# Altium footprint library TeensyFootprint.PcbLib: 1 footprints
Each footprint in its own frame and in the unit in brackets; x right, y up, seen from the top. Pads: shape width x height; smd on the part's side, far side on the other; paste and mask are expansions set on the pad; w line width, h text height; cw(c..) or ccw(c..) is an arc to the next point about the centre after c.
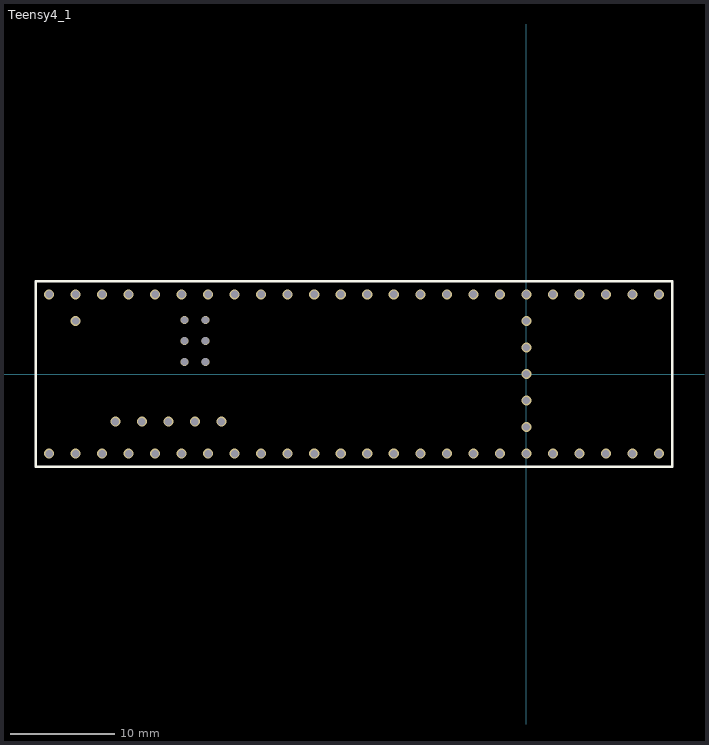
[diagram p0: the footprint, top view; thin cyan lines are the x and y axes]

## Teensy4_1 [mm] "Mircocontroller"
height 1.57
via 7.62,-7.62 diameter 0.965 hole 0.711
via 10.16,-7.62 diameter 0.965 hole 0.711
via 12.7,-7.62 diameter 0.965 hole 0.711
via 2.54,-7.62 diameter 0.965 hole 0.711
via 5.08,-7.62 diameter 0.965 hole 0.711
via 0,-7.62 diameter 0.965 hole 0.711
via -2.54,-7.62 diameter 0.965 hole 0.711
via -5.08,-7.62 diameter 0.965 hole 0.711
via -12.7,-7.62 diameter 0.965 hole 0.711
via -7.62,-7.62 diameter 0.965 hole 0.711
via -22.86,-7.62 diameter 0.965 hole 0.711
via -27.94,-7.62 diameter 0.965 hole 0.711
via -30.48,-7.62 diameter 0.965 hole 0.711
via -25.4,-7.62 diameter 0.965 hole 0.711
via -20.32,-7.62 diameter 0.965 hole 0.711
via -15.24,-7.62 diameter 0.965 hole 0.711
via -17.78,-7.62 diameter 0.965 hole 0.711
via -33.02,-7.62 diameter 0.965 hole 0.711
via -10.16,-7.62 diameter 0.965 hole 0.711
via -45.72,-7.62 diameter 0.965 hole 0.711
via -40.64,-7.62 diameter 0.965 hole 0.711
via -35.56,-7.62 diameter 0.965 hole 0.711
via -43.18,-7.62 diameter 0.965 hole 0.711
via -38.1,-7.62 diameter 0.965 hole 0.711
via 0,-5.08 diameter 0.965 hole 0.711
via 12.7,7.62 diameter 0.965 hole 0.711
via 0,-2.54 diameter 0.965 hole 0.711
via 0,0 diameter 0.965 hole 0.711
via 0,2.54 diameter 0.965 hole 0.711
via 0,5.08 diameter 0.965 hole 0.711
via 10.16,7.62 diameter 0.965 hole 0.711
via 7.62,7.62 diameter 0.965 hole 0.711
via 5.08,7.62 diameter 0.965 hole 0.711
via 2.54,7.62 diameter 0.965 hole 0.711
via 0,7.62 diameter 0.965 hole 0.711
via -2.54,7.62 diameter 0.965 hole 0.711
via -5.08,7.62 diameter 0.965 hole 0.711
via -7.62,7.62 diameter 0.965 hole 0.711
via -10.16,7.62 diameter 0.965 hole 0.711
via -12.7,7.62 diameter 0.965 hole 0.711
via -15.24,7.62 diameter 0.965 hole 0.711
via -17.78,7.62 diameter 0.965 hole 0.711
via -20.32,7.62 diameter 0.965 hole 0.711
via -22.86,7.62 diameter 0.965 hole 0.711
via -25.4,7.62 diameter 0.965 hole 0.711
via -27.94,7.62 diameter 0.965 hole 0.711
via -30.48,7.62 diameter 0.965 hole 0.711
via -33.02,7.62 diameter 0.965 hole 0.711
via -35.56,7.62 diameter 0.965 hole 0.711
via -38.1,7.62 diameter 0.965 hole 0.711
via -40.64,7.62 diameter 0.965 hole 0.711
via -43.18,7.62 diameter 0.965 hole 0.711
via -45.72,7.62 diameter 0.965 hole 0.711
via -43.18,5.08 diameter 0.965 hole 0.711
via -39.37,-4.57 diameter 0.965 hole 0.711
via -29.21,-4.57 diameter 0.965 hole 0.711
via -36.83,-4.57 diameter 0.965 hole 0.711
via -31.75,-4.57 diameter 0.965 hole 0.711
via -34.29,-4.57 diameter 0.965 hole 0.711
via -32.75,5.17 diameter 0.762 hole 0.711
via -30.75,5.17 diameter 0.762 hole 0.711
via -32.75,3.17 diameter 0.762 hole 0.711
via -30.75,3.17 diameter 0.762 hole 0.711
via -32.75,1.17 diameter 0.762 hole 0.711
via -30.75,1.17 diameter 0.762 hole 0.711
Top Overlay:
  lines w0.254: -46.99,-8.89 13.97,-8.89 13.97,8.89 -46.99,8.89 -46.99,-8.89